# EAGLE library part CS4341-KS (library Cirrus_Logic_By_element14_Batch_1)
24-Bit, 96 kHz Stereo DAC with Volume Control
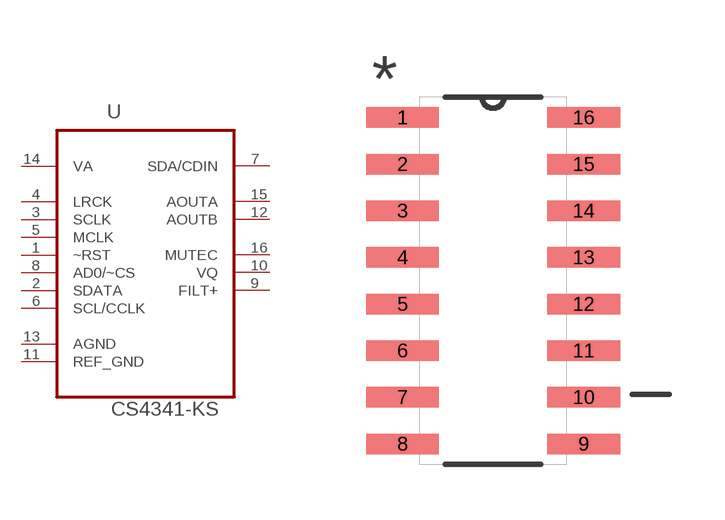
[diagram p3: symbol with the pads of SOIC127P600X175-16N; footprint SOIC127P600X175-16N]

Designator prefix U

## CS4341-KS (DESCRIPTION: 24-Bit, 96 kHz Stereo DAC with Volume Control; MPN: CS4341-KS; OC_FARNELL: -; OC_NEWARK: 35C5597; PACKAGE: SOIC-16; SUPPLIER: CIRRUS LOGIC)  [SOIC127P600X175-16N]
1  ~RST  in
2  SDATA  in
3  SCLK  in
4  LRCK  in
5  MCLK  in
6  SCL/CCLK  in
7  SDA/CDIN
8  AD0/~CS  in
9  FILT+  out
10  VQ  out
11  REF_GND  pas
12  AOUTB  out
13  AGND  pas
14  VA  pwr
15  AOUTA  out
16  MUTEC  out

## Footprint SOIC127P600X175-16N (pad centres in mm)
smd 1.981 x 0.559: 1 -2.464,4.445; 2 -2.464,3.175; 3 -2.464,1.905; 4 -2.464,0.635; 5 -2.464,-0.635; 6 -2.464,-1.905; 7 -2.464,-3.175; 8 -2.464,-4.445; 9 2.464,-4.445; 10 2.464,-3.175; 11 2.464,-1.905; 12 2.464,-0.635; 13 2.464,0.635; 14 2.464,1.905; 15 2.464,3.175; 16 2.464,4.445